# Altium footprint library SAMTEC_TSW-103-19-S-S.PcbLib: 1 footprints
Each footprint in its own frame and in the unit in brackets; x right, y up, seen from the top. Pads: shape width x height; smd on the part's side, far side on the other; paste and mask are expansions set on the pad; w line width, h text height; cw(c..) or ccw(c..) is an arc to the next point about the centre after c.
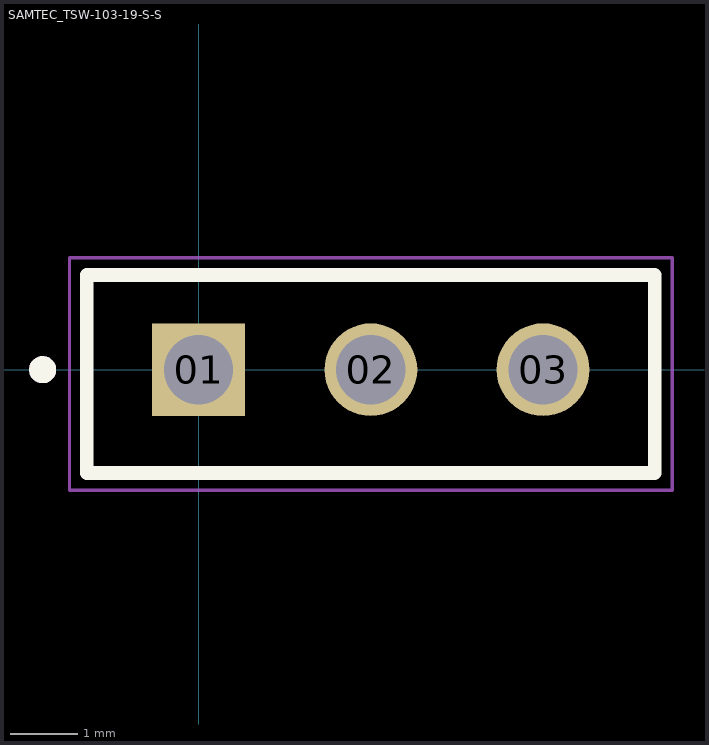
[diagram p0: the footprint, top view; thin cyan lines are the x and y axes]

## SAMTEC_TSW-103-19-S-S [mm]
pads (3):
  rect 1.37x1.37 hole 1.02: 01(0,0)
  round 1.37 hole 1.02: 02(2.54,0) 03(5.08,0)
Top Overlay:
  circle w0.2: c-2.301,0 r0.1
  lines w0.2: -1.651,-1.524 -1.651,1.397 6.731,1.397 6.731,-1.524 -1.651,-1.524
Mechanical 13:
  circle w0.2: c-2.301,0 r0.1
  lines w0.1: -1.651,-1.524 6.731,-1.524 6.731,1.397 -1.651,1.397 -1.651,-1.524
Mechanical 15:
  lines w0.05: -1.905,-1.778 -1.905,1.651 6.985,1.651 6.985,-1.778 -1.905,-1.778
3D body "PPPC031LFBN-RC--3DModel-STEP-269445.STEP": height 8.51, standoff -3.2, extent -1.524,-1.397 6.604,1.143